# Altium schematic symbol library Resistor.SchLib: 7 symbols
Pins are listed as number, name and electrical type; pins without a type are passive.

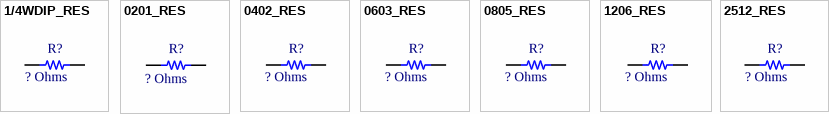
[diagram p0: symbols 1/4WDIP_RES to 2512_RES]

## 1/4WDIP_RES
designator R?  value ? Ohms  (hidden comment: *)
pins: 1, 2

## 0201_RES
designator R?  value ? Ohms  (hidden comment: *)
footprint 0201
pins: 1, 2

## 0402_RES
designator R?  value ? Ohms  (hidden comment: *)
footprint 0402
pins: 1, 2

## 0603_RES
designator R?  value ? Ohms  (hidden comment: *)
footprint 0603
pins: 1, 2

## 0805_RES
designator R?  value ? Ohms  (hidden comment: *)
footprint 0805
pins: 1, 2

## 1206_RES
designator R?  value ? Ohms  (hidden comment: *)
Supplier 1: Farnell; Supplier Part Number 1: 1632534
footprint 1206
pins: 1, 2

## 2512_RES
designator R?  value ? Ohms  (hidden comment: *)
footprint 2512
pins: 1, 2